# EAGLE library part MAX3051 (library pixhawk2)
3.3-V CAN TRANSCEIVER
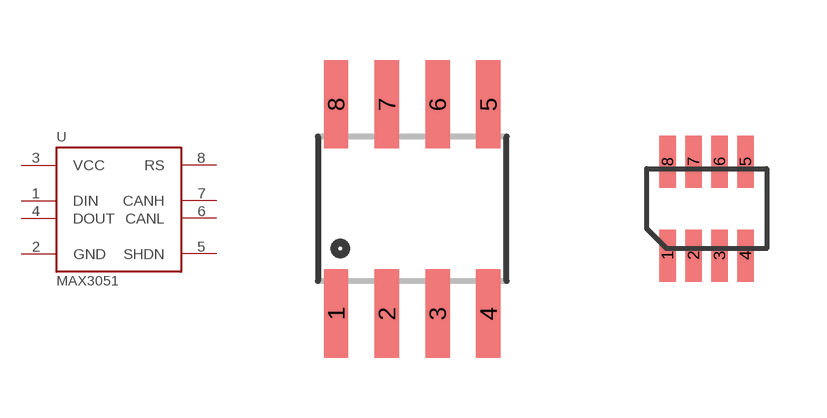
[diagram p6: symbol with the pads of SO08; footprints SO08, SOT23-8]

Designator prefix U

## MAX3051MAX3051ESA  [SO08]
1  DIN  in
2  GND  sup
3  VCC  in
4  DOUT  out
5  SHDN  in
6  CANL
7  CANH
8  RS  in

## MAX3051MAX3051EKA  [SOT23-8]
Pads as for SO08

## Footprint SO08 (pad centres in mm)
Small Outline Package Fits JEDEC packages (narrow SOIC-8)
smd 0.61 x 2.21: 1 -1.905,-2.616; 2 -0.635,-2.616; 3 0.635,-2.616; 4 1.905,-2.616; 5 1.905,2.616; 6 0.635,2.616; 7 -0.635,2.616; 8 -1.905,2.616

## Footprint SOT23-8 (pad centres in mm)
SOT23-8
smd 0.42 x 1.3: 1 -0.975,-1.175; 2 -0.325,-1.175; 3 0.325,-1.175; 4 0.975,-1.175; 5 0.975,1.175; 6 0.325,1.175; 7 -0.325,1.175; 8 -0.975,1.175